# EAGLE library part LM4670SD_NOPB (library LM4670SD_NOPB)
Filterless High Efficiency 3W Switching Audio Amplifier Source: Datasheet <http://www.ti.com/lit/gpn/lm4670>
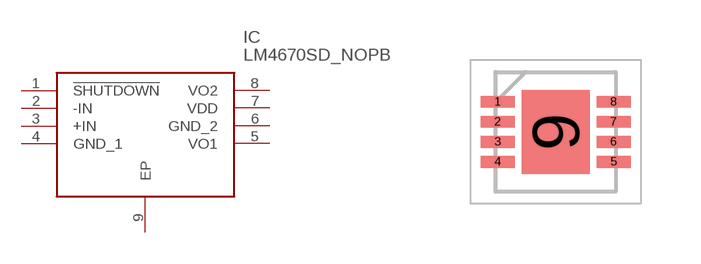
[diagram p0: symbol with the pads of SON50P300X300X80-9N; footprint SON50P300X300X80-9N]

Designator prefix IC

## LM4670SD_NOPB (Arrow_Part_Number: LM4670SD/NOPB; Arrow_Price-Stock: https://www.arrow.com/en/products/lm4670sdnopb/texas-instruments?utm_currency=USD&region=nac; Description: Filterless High Efficiency 3W Switching Audio Amplifier; Height: 0.8mm; Manufacturer_Name: Texas Instruments; Manufacturer_Part_Number: LM4670SD/NOPB; Mouser_Part_Number: 595-LM4670SD/NOPB; Mouser_Price-Stock: https://www.mouser.co.uk/ProductDetail/Texas-Instruments/LM4670SD-NOPB?qs=2k4gZbgf%2F9nNpTS8Wdbmrw%3D%3D)  [SON50P300X300X80-9N]
1  !SHUTDOWN
2  -IN
3  +IN
4  GND_1
5  VO1
6  GND_2
7  VDD
8  VO2
9  EP

## Footprint SON50P300X300X80-9N (pad centres in mm)
NGQ0008A
smd 0.85 x 0.3: 1 -1.45,0.75; 2 -1.45,0.25; 3 -1.45,-0.25; 4 -1.45,-0.75; 5 1.45,-0.75; 6 1.45,-0.25; 7 1.45,0.25; 8 1.45,0.75
smd 1.7 x 2.1: 9 0,0